# EAGLE library part LM392M (library MarcEagleParts)
Low Power Operational Amplifier
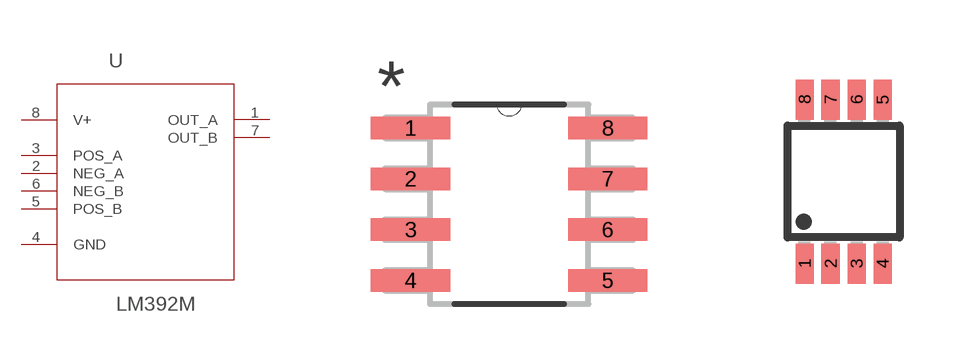
[diagram p7: symbol with the pads of SOIC127P620X175-8N; footprints SOIC127P620X175-8N, MSOP8]

Designator prefix U

## LM392MSOIC8 (MPN: LM392M; OC_FARNELL: 9486755; OC_NEWARK: 41K5114; PACKAGE: 8-SOIC; SUPPLIER: National Semiconductor)  [SOIC127P620X175-8N]
1  OUT_A  out
2  NEG_A  in
3  POS_A  in
4  GND  pas
5  POS_B  in
6  NEG_B  in
7  OUT_B  out
8  V+  pwr

## LM392MMSOP8  [MSOP8]
Pads as for SOIC127P620X175-8N

## Footprint SOIC127P620X175-8N (pad centres in mm)
smd 1.981 x 0.559: 1 -2.464,1.905; 2 -2.464,0.635; 3 -2.464,-0.635; 4 -2.464,-1.905; 5 2.464,-1.905; 6 2.464,-0.635; 7 2.464,0.635; 8 2.464,1.905

## Footprint MSOP8 (pad centres in mm)
Micro Small Outline Package Grid .65mm
smd 0.45 x 1: 1 -0.975,-2.05; 2 -0.325,-2.05; 3 0.325,-2.05; 4 0.975,-2.05; 5 0.975,2.05; 6 0.325,2.05; 7 -0.325,2.05; 8 -0.975,2.05